# Altium schematic symbol library RP506K331B-TR.Schlib: 1 symbol
Pins are listed as number, name and electrical type; pins without a type are passive.

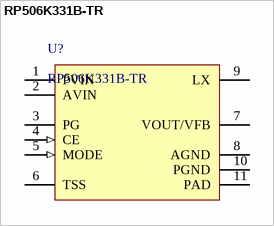
[diagram p0: symbol RP506K331B-TR]

## RP506K331B-TR
designator U?
Buck Switching Regulator IC Positive Fixed 3.3V 1 Output 2A 10-UFDFN Exposed Pad
pins: 1 PVIN (power), 2 AVIN (power), 3 PG (oc), 4 CE (in), 5 MODE (in), 6 TSS (oc), 7 VOUT/VFB (power), 8 AGND (power), 9 LX, 10 PGND (power), 11 PAD (power)